# Altium footprint library GNSS_Parts.PcbLib: 13 footprints
Each footprint in its own frame and in the unit in brackets; x right, y up, seen from the top. Pads: shape width x height; smd on the part's side, far side on the other; paste and mask are expansions set on the pad; w line width, h text height; cw(c..) or ccw(c..) is an arc to the next point about the centre after c.
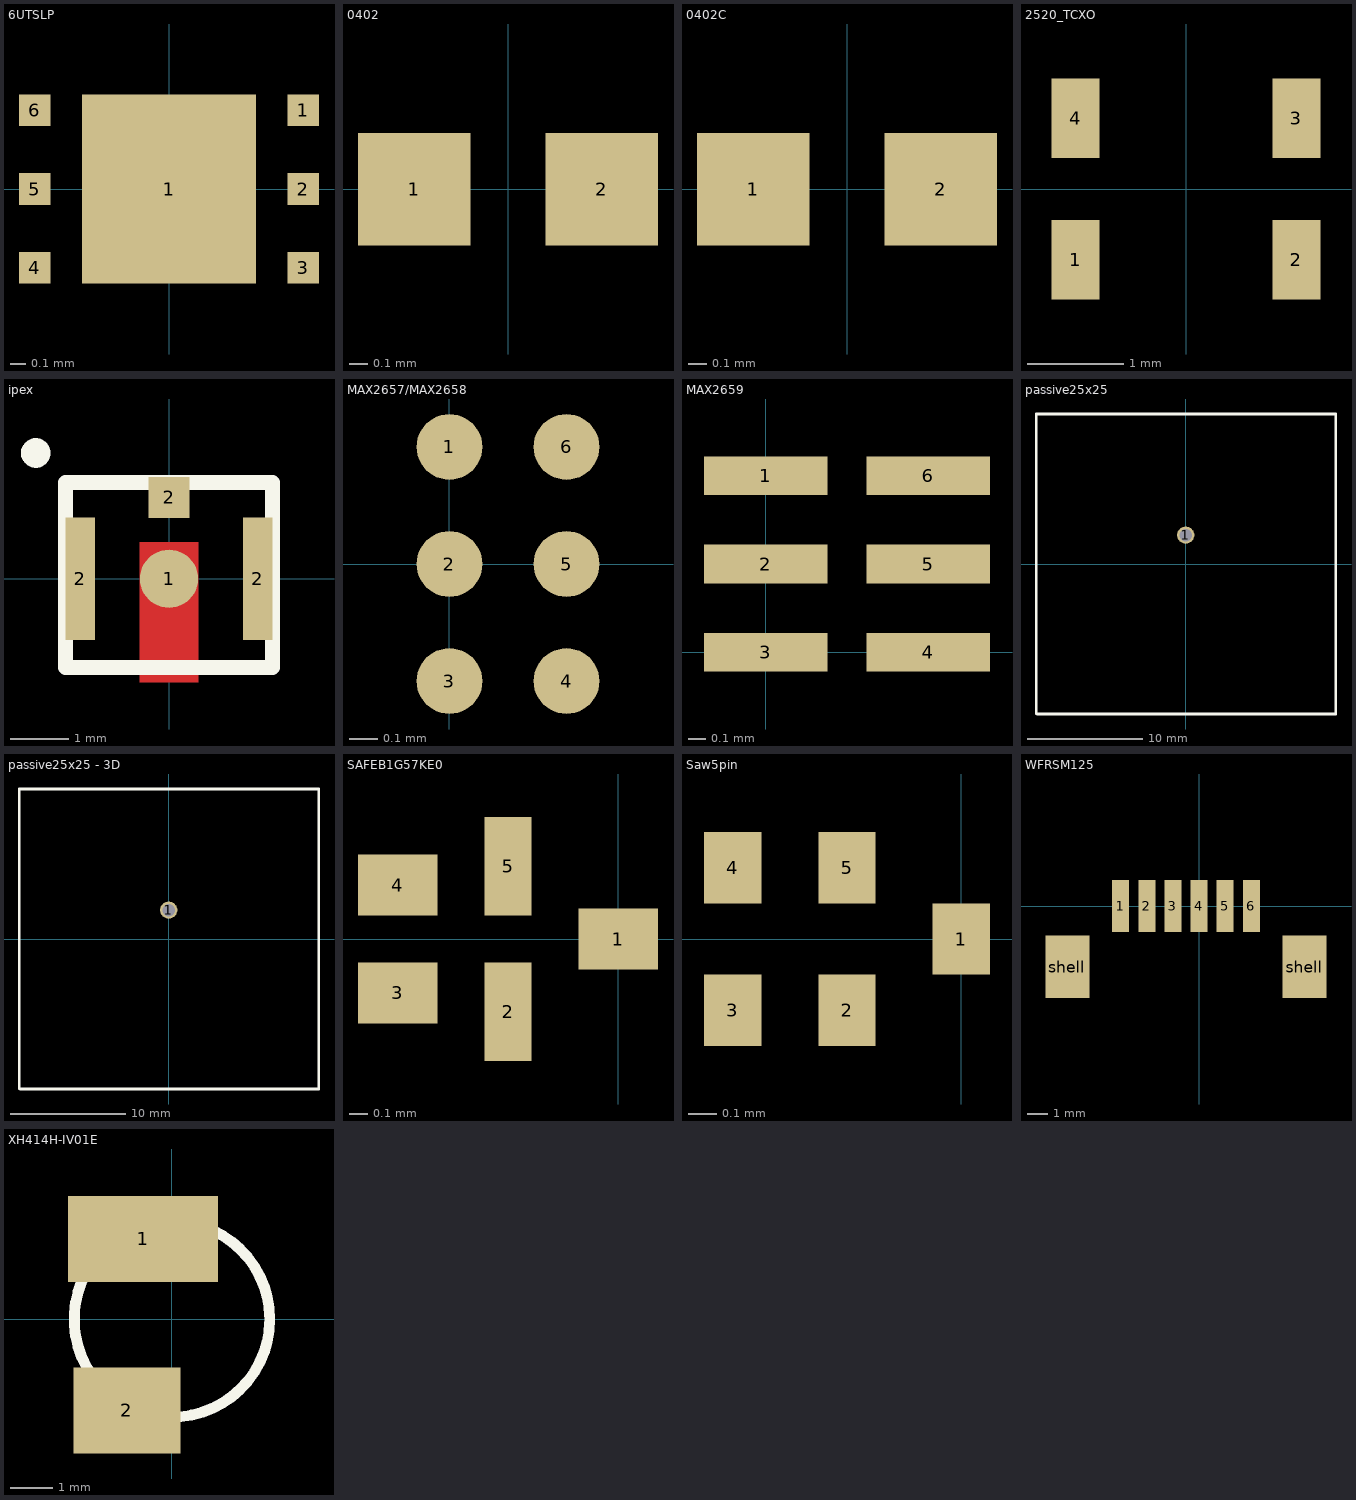
[diagram p0: the footprints below, top view; thin cyan lines are the x and y axes]

## 6UTSLP [mm]
pads (7):
  rect 1.1x1.2 smd: 1(0,0)
  rect 0.2x0.2 smd: 1(0.85,0.5) 2(0.85,0) 3(0.85,-0.5) 4(-0.85,-0.5) 5(-0.85,0) 6(-0.85,0.5)
3D body: height 0.4, standoff 0, extent -1,-0.65 1,0.65

## 0402 [mm]
pads (2):
  rect 0.6x0.6 smd: 1(-0.5,0) 2(0.5,0)
3D body: height 0.2, standoff 0, extent -0.508,-0.254 0.508,0.254

## 0402C [mm]
pads (2):
  rect 0.6x0.6 smd: 1(-0.5,0) 2(0.5,0)
3D body: height 0.2, standoff 0, extent -0.508,-0.254 0.508,0.254

## 2520_TCXO [mm]
pads (4):
  rect 0.5x0.825 smd: 1(-1.15,-0.737) 2(1.15,-0.737) 3(1.15,0.737) 4(-1.15,0.737)

## ipex [mm]
pads (4):
  round 1 smd: 1(0,0)
  rect 0.5x2.1 smd: 2(-1.524,0) 2(1.524,0)
  rect 0.7x0.7 smd: 2(0,1.397)
Top Layer:
  rectangle: -0.508,-1.778 0.508,0.635
Top Overlay:
  circle w0.254: c-2.286,2.159 r0.127
  lines w0.254: -1.778,-1.524 -0.635,-1.524 0.635,-1.524 1.778,-1.524 1.778,1.651 -1.778,1.651 -1.778,-1.524
Top Solder:
  rectangle: -0.508,-1.778 0.508,0.635

## MAX2657/MAX2658 [mil]
pads (6):
  round 9 smd: 1(0,16) 2(0,0) 3(0,-16) 4(16,-16) 5(16,0) 6(16,16)

## MAX2659 [mm]
pads (6):
  rect 0.7x0.22 smd: 1(0,1) 2(0,0.5) 3(0,0) 4(0.92,0) 5(0.92,0.5) 6(0.92,1)
3D body: height 0.72, standoff 0, extent -0.025,-0.229 0.965,1.219

## passive25x25 [mm]
pads (1):
  round 1.5 hole 1.1: 1(0,2.5)
Top Overlay:
  lines w0.254: -12.954,-12.954 -12.908,-13 13,-13 13,13 -12.954,13 -12.954,-12.954

## passive25x25 - 3D [mm]
pads (1):
  round 1.5 hole 1.1: 1(0,2.5)
Top Overlay:
  lines w0.254: -12.954,-12.954 -12.954,13 13,13 13,-13 -12.908,-13 -12.954,-12.954
3D body "gps陶瓷天线.stp": height 2.5, standoff -1.7, extent -12.423,-12.552 12.677,12.548

## SAFEB1G57KE0 [mm]
pads (5):
  rect 0.425x0.325 smd: 1(0,0) 3(-1.175,-0.288) 4(-1.175,0.288)
  rect 0.25x0.525 smd: 2(-0.587,-0.387) 5(-0.587,0.387)
3D body: height 0.6, standoff 0, extent -1.27,-0.559 0.076,0.533

## Saw5pin [mm]
pads (5):
  rect 0.2x0.25 smd: 1(0,0) 2(-0.4,-0.25) 3(-0.8,-0.25) 4(-0.8,0.25) 5(-0.4,0.25)
3D body: height 0.5, standoff 0, extent -0.965,-0.457 0.152,0.457

## WFRSM125 [mm]
pads (8):
  rect 0.81x2.5 smd: 1(-3.75,0) 2(-2.5,0) 3(-1.25,0) 4(0,0) 5(1.25,0) 6(2.5,0)
  rect 2.1x3 smd: shell(-6.3,-2.9) shell(5.05,-2.9)
3D body: height 3.4, standoff 0, extent -6.789,-3.819 5.461,0.381

## XH414H-IV01E [mm]
pads (2):
  rect 3.5x2 smd: 1(-0.671,1.873)
  rect 2.5x2 smd: 2(-1.052,-2.127)
Top Overlay:
  circle w0.254: c0,0 r2.283
3D body: height 2, standoff 0, extent -2.417,-2.395 2.364,2.395